# Altium footprint library SMF5.0A.PcbLib: 1 footprints
Each footprint in its own frame and in the unit in brackets; x right, y up, seen from the top. Pads: shape width x height; smd on the part's side, far side on the other; paste and mask are expansions set on the pad; w line width, h text height; cw(c..) or ccw(c..) is an arc to the next point about the centre after c.
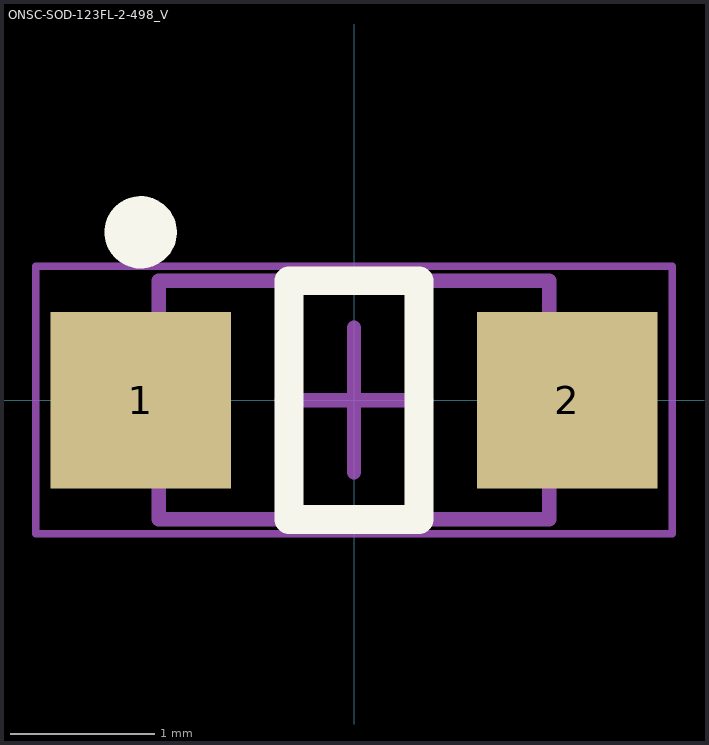
[diagram p0: the footprint, top view; thin cyan lines are the x and y axes]

## ONSC-SOD-123FL-2-498_V [mm] "SOD, 2-Leads, Body 2.7x1.65mm"
height 0.98
pads (2):
  rect 1.25x1.22 smd: 1(-1.475,0) 2(1.475,0)
Top Overlay:
  circle w0.25: c-1.475,1.16 r0.125
  lines w0.2: -0.45,-0.825 -0.45,0.825 0.45,0.825 0.45,-0.825 -0.45,-0.825
Mechanical 13:
  lines w0.1: -1.35,-0.825 -1.35,0.825 1.35,0.825 1.35,-0.825 -1.35,-0.825
Mechanical 15:
  lines w0.05: -2.2,-0.925 2.2,-0.925 2.2,0.925 -2.2,0.925 -2.2,-0.925
  lines w0.1: -0.5,0 0.5,0 ; 0,-0.5 0,0.5
3D body: height 0.98, standoff 0, extent -1.35,-0.825 1.35,0.825